# Altium integrated library Lib_Basov305.IntLib: 3 symbols
Pins are listed as number, name and electrical type; pins without a type are passive.

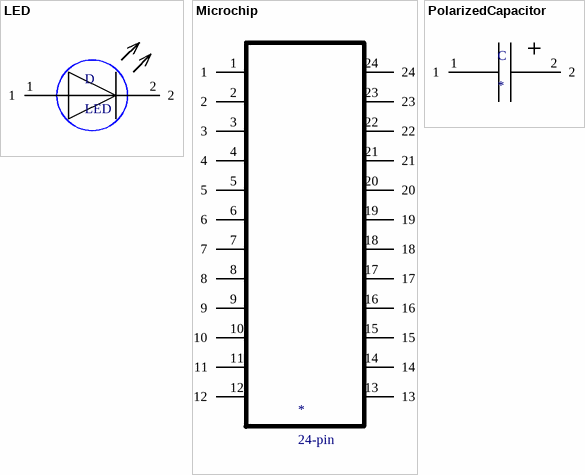
[diagram p0: symbols LED to PolarizedCapacitor]

## LED
designator D
Generic light-emitting diode
pins: 1, 2

## Microchip
designator *, comment 24-pin
Generic 24-pin chip
pins: 1, 2, 3, 4, 5, 6, 7, 8, 9, 10, 11, 12, 13, 14, 15, 16, 17, 18, 19, 20, 21, 22, 23, 24

## PolarizedCapacitor
designator C
Generic polarized Capacitor
pins: 1, 2